# EAGLE library part CONNECTOR-6 (library HyTechDevices)
Mini-Fit Junior connector 6 pole Source: http://www.molex.com
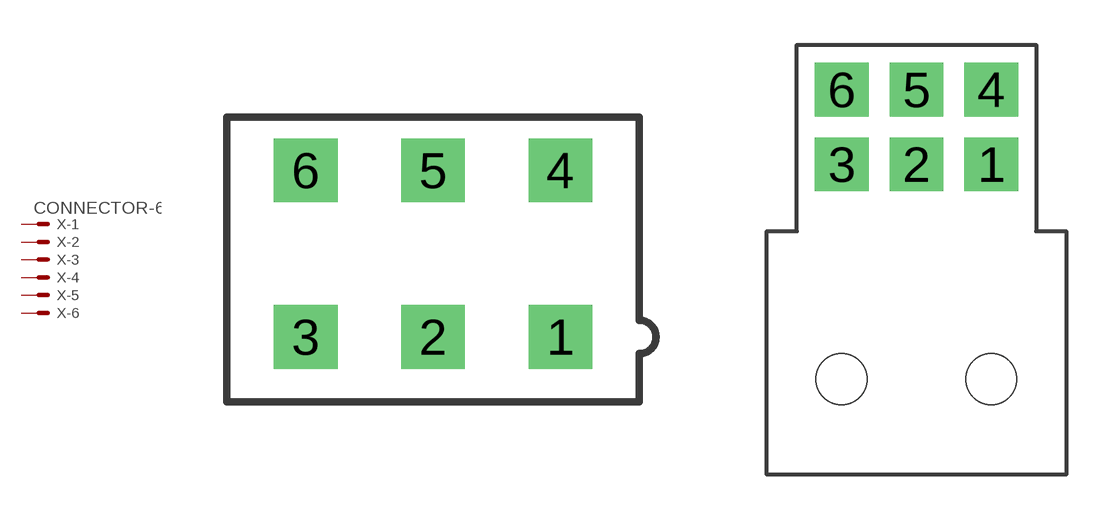
[diagram p23: symbol with the pads of MINIFIT_5566-6; footprints MINIFIT_5566-6, NANO-FIT_RIGHT_ANGLE-6]

Designator prefix X; gates -1=MV -2=M -3=M -4=M -5=M -6=M

## CONNECTOR-6 (MPN: 95566-61002; OC_FARNELL: unknown; OC_NEWARK: 22K8620)  [MINIFIT_5566-6]
1  -1:S  pas
2  -2:S  pas
3  -3:S  pas
4  -4:S  pas
5  -5:S  pas
6  -6:S  pas

## CONNECTOR-6NANO-FIT_RIGHT_ANGLE-6  [NANO-FIT_RIGHT_ANGLE-6]
Pads as for MINIFIT_5566-6

## CONNECTOR-6NANO-FIT_RIGHT_ANGLE-6-SURFACE  [NANO-FIT_RIGHT_ANGLE-6-SURFACE]
Pads as for MINIFIT_5566-6

## CONNECTOR-6NANO-FIT_VERTICAL-6  [NANO-FIT_VERTICAL-6]
P$1  -1:S  pas
P$2  -2:S  pas
P$3  -3:S  pas
P$4  -4:S  pas
P$5  -5:S  pas
P$6  -6:S  pas

## CONNECTOR-6DURACLIK_RIGHT_ANGLE-6  [DURACLIK_RIGHT_ANGLE-6]
Pads as for MINIFIT_5566-6

## CONNECTOR-6DURACLIK_VERTICAL-6  [DURACLIK_VERTICAL-6]
Pads as for MINIFIT_5566-6

## Footprint MINIFIT_5566-6 (pad centres in mm)
Mini-Fit Junior connector 6 pole Source: http://www.molex.com
drill 1.4 square: 1 4.2,-2.75; 2 0,-2.75; 3 -4.2,-2.75; 4 4.2,2.75; 5 0,2.75; 6 -4.2,2.75

## Footprint NANO-FIT_RIGHT_ANGLE-6 (pad centres in mm)
drill 1.2 square: 1 2.5,0; 2 0,0; 3 -2.5,0; 4 2.5,2.5; 5 0,2.5; 6 -2.5,2.5
hole 1.7 at -2.5,-7.18
hole 1.7 at 2.5,-7.18

## Footprint NANO-FIT_RIGHT_ANGLE-6-SURFACE (pad centres in mm)
smd 1.24 x 2.5: 1 2.5,0; 2 0,0; 3 -2.5,0; 4 2.5,3.3; 5 0,3.3; 6 -2.5,3.3
smd 1.1 x 8.2: P$7 -4.77,-4.93; P$8 4.77,-4.93

## Footprint NANO-FIT_VERTICAL-6 (pad centres in mm)
drill 1.2: P$1 -2.5,0; P$2 0,0; P$3 2.5,0; P$4 -2.5,2.5; P$5 0,2.5; P$6 2.5,2.5
hole 1.3 at -1.25,-1.34

## Footprint DURACLIK_RIGHT_ANGLE-6 (pad centres in mm)
smd 1.2 x 3.2: 1 5,8.13; 2 3,8.13; 3 1,8.13; 4 -1,8.13; 5 -3,8.13; 6 -5,8.13; P$2 5,8.13
smd 1.7 x 5.3: P$1 7.55,2.65; P$3 -7.55,2.65

## Footprint DURACLIK_VERTICAL-6 (pad centres in mm)
smd 1.2 x 2.2: 1 5,7.68; 2 3,7.68; 3 1,7.68; 4 -1,7.68; 5 -3,7.68; 6 -5,7.68
smd 2 x 4.2: P$1 8.6,2.1; P$2 -8.6,2.1